# EAGLE library part SPRING2X4_PAD (library molex-spring)
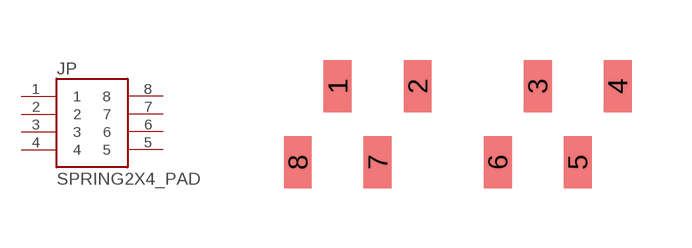
[diagram p1: symbol with the pads of 2X4_PADS; footprint 2X4_PADS]

Designator prefix JP

## SPRING2X4_PAD  [2X4_PADS]
1  1
2  2
3  3
4  4
5  5
6  6
7  7
8  8

## Footprint 2X4_PADS (pad centres in mm)
smd 0.7 x 1.3: 1 -3,2.4; 2 -1,2.4; 3 2,2.4; 4 4,2.4; 5 3,0.5; 6 1,0.5; 7 -2,0.5; 8 -4,0.5